# Altium schematic symbol library ESP32 Platform.SchLib: 28 symbols
Pins are listed as number, name and electrical type; pins without a type are passive.

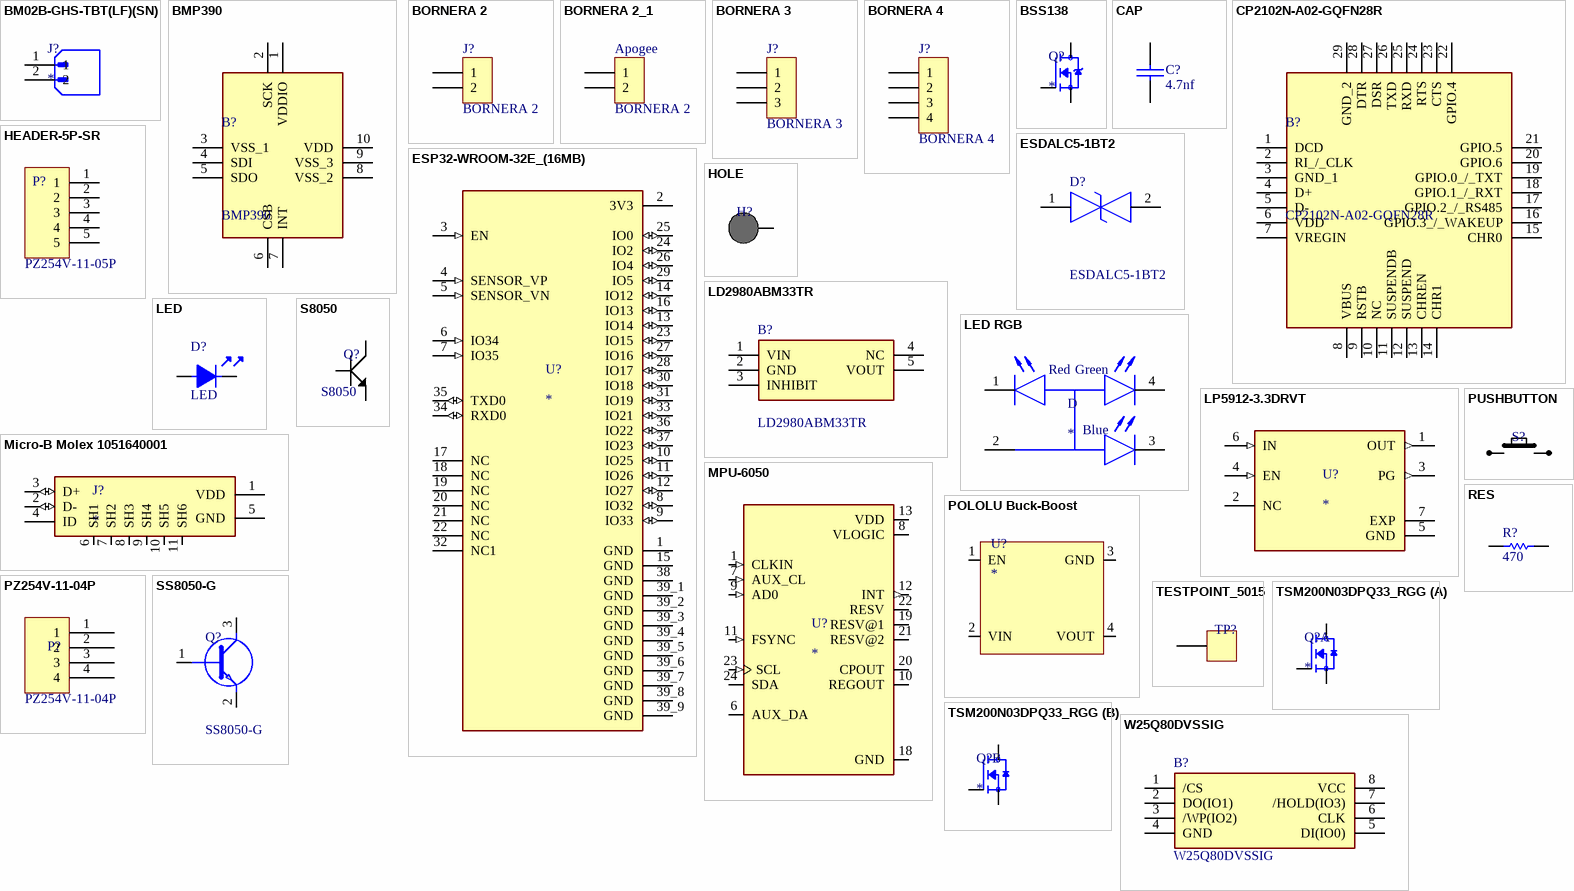
[diagram p0: symbols BM02B-GHS-TBT(LF)(SN) to W25Q80DVSSIG]

## BM02B-GHS-TBT(LF)(SN)
designator J?
Connector Header Surface Mount 2 position 0.049 (1.25mm); MF: JST Corporation; MP: BM02B-GHS-TBT(LF)(SN); Package: None; Value: *; Availability: Warning; Check_prices: https://www.snapeda.com/parts/BM02B-GHS-TBT(LF)(SN)/JST/view-part/4833827/?ref=eda; SnapEDA_Link: https://www.snapeda.com/parts/BM02B-GHS-TBT(LF)(SN)/JST/view-part/4833827/?ref=snap; Price: None
footprint JST_BM02B-GHS-TBT(LF)(SN)
pins: 1, 2

## BMP390
designator B?
Board Mount Pressure Sensors; Manufacturer_Name: BOSCH; Geometry.Height: 0.8mm; Mouser Part Number: 262-BMP390; Mouser Price/Stock: https://www.mouser.co.uk/ProductDetail/Bosch-Sensortec/BMP390?qs=QNEnbhJQKvYQVfvRMgo2YA%3D%3D; Manufacturer_Part_Number: BMP390; Datasheet Link: https://www.bosch-sensortec.com/media/boschsensortec/downloads/datasheets/bst-bmp390-ds002.pdf
footprint BMP390
pins: 1 VDDIO, 2 SCK, 3 VSS_1, 4 SDI, 5 SDO, 6 CSB, 7 INT, 8 VSS_2, 9 VSS_3, 10 VDD

## BORNERA 2
designator J?
footprint BORNERA2 (Bornera con Tornillos 5mm separación)
pins: 1, 2

## BORNERA 2_1
designator Apogee, comment BORNERA 2
footprint BORNERA2 (Bornera con Tornillos 5mm separación)
pins: 1, 2

## BORNERA 3
designator J?
footprint BORNERA3 (Bornera con Tornillos 5mm separación)
pins: 1, 2, 3

## BORNERA 4
designator J?
footprint BORNERA4 (Bornera con Tornillos 5mm separación)
pins: 1, 2, 3, 4

## BSS138
designator Q?
N-Channel 50V 220mA (Ta) 360mW (Ta) Surface Mount SOT-23-3; MP: BSS138; MF: ON Semiconductor; Price: None; SnapEDA_Link: https://www.snapeda.com/parts/BSS138/ON%20Semiconductor/view-part/4794929/?ref=snap; Availability: Good; Purchase-URL: https://pricing.snapeda.com/search/part/BSS138/?ref=eda; Value: *; Check_prices: https://www.snapeda.com/parts/BSS138/ON%20Semiconductor/view-part/4794929/?ref=eda; Package: SOT-23 ON Semiconductor
footprint SOT95P240X111-3N
pins: 1 G, 2 S, 3 D

## CAP
designator C?, comment 4.7nf
Capacitor SMD 4.7nF
footprint 1206 (Pasivo 1206)
footprint CAPSMD0805 (Pasivo 0805)
footprint CAP100RP2 (Body diameter 6.5mm)
footprint CAPSMD0603 (Pasivo 0603)
pins: 1, 2

## CP2102N-A02-GQFN28R
designator B?
USB Interface IC USB to UART bridge - QFN28; Manufacturer_Name: Silicon Labs; Geometry.Height: 0.8mm; Mouser Part Number: 634-CP2102NA02QFN28R; Mouser Price/Stock: https://www.mouser.co.uk/ProductDetail/Silicon-Labs/CP2102N-A02-GQFN28R?qs=u16ybLDytRag4qKvSH3fTw%3D%3D; Manufacturer_Part_Number: CP2102N-A02-GQFN28R; Datasheet Link: https://www.silabs.com/documents/public/data-sheets/cp2102n-datasheet.pdf
footprint CP2102N
pins: 1 DCD, 2 RI_/_CLK, 3 GND_1, 4 D+, 5 D-, 6 VDD, 7 VREGIN, 8 VBUS, 9 RSTB, 10 NC, 11 SUSPENDB, 12 SUSPEND, 13 CHREN, 14 CHR1, 15 CHR0, 16 GPIO.3_/_WAKEUP, 17 GPIO.2_/_RS485, 18 GPIO.1_/_RXT, 19 GPIO.0_/_TXT, 20 GPIO.6, 21 GPIO.5, 22 GPIO.4, 23 CTS, 24 RTS, 25 RXD, 26 TXD, 27 DSR, 28 DTR, 29 GND_2

## ESDALC5-1BT2
designator D?
ESD Suppressors / TVS Diodes Single Line Transil Vbr 5V min 26pF 0; Manufacturer_Name: STMicroelectronics; Mouser Part Number: 511-ESDALC5-1BT2; Mouser Price/Stock: https://www.mouser.co.uk/ProductDetail/STMicroelectronics/ESDALC5-1BT2?qs=z0iXaKah%2FHDPGBBIoqx%252BQw%3D%3D; Manufacturer_Part_Number: ESDALC5-1BT2; Datasheet Link: http://www.st.com/web/en/resource/technical/document/datasheet/CD00260064.pdf
footprint ESDALC51BT2
pins: 1, 2

## ESP32-WROOM-32E_(16MB)
designator U?
Bluetooth, WiFi 802.11b/g/n, Bluetooth v4.2 +EDR, Class 1, 2 and 3 Transceiver Module 2.4GHz ~ 2.5GHz Integrated, Trace Surface Mount; MP: ESP32-WROOM-32E (16MB); MF: Espressif Systems; Price: None; Availability: Not in stock; Package: None; Value: *; SnapEDA_Link: https://www.snapeda.com/parts/ESP32-WROOM-32E%20(16MB)/Espressif+Systems/view-part/?ref=snap; Check_prices: https://www.snapeda.com/parts/ESP32-WROOM-32E%20(16MB)/Espressif+Systems/view-part/?ref=eda
footprint XCVR_ESP32-WROOM-32E_(16MB)
pins: 1 GND (power), 2 3V3 (power), 3 EN (in), 4 SENSOR_VP (in), 5 SENSOR_VN (in), 6 IO34 (in), 7 IO35 (in), 8 IO32 (io), 9 IO33 (io), 10 IO25 (io), 11 IO26 (io), 12 IO27 (io), 13 IO14 (io), 14 IO12 (io), 15 GND (power), 16 IO13 (io), 17 NC, 18 NC, 19 NC, 20 NC, 21 NC, 22 NC, 23 IO15 (io), 24 IO2 (io), 25 IO0 (io), 26 IO4 (io), 27 IO16 (io), 28 IO17 (io), 29 IO5 (io), 30 IO18 (io), 31 IO19 (io), 32 NC1, 33 IO21 (io), 34 RXD0 (io), 35 TXD0 (io), 36 IO22 (io), 37 IO23 (io), 38 GND (power), 39_1 GND (power), 39_2 GND (power), 39_3 GND (power), 39_4 GND (power), 39_5 GND (power), 39_6 GND (power), 39_7 GND (power), 39_8 GND (power), 39_9 GND (power)

## HEADER-5P-SR
designator P?  Manufacturer Part Number: PZ254V-11-05P
Manufacturer: XFCN; Supplier: JLCPCB; Supplier Part Number: C492404
footprint PZ254V-11-05P
pins: 1, 2, 3, 4, 5

## HOLE
designator H?
footprint HOLE_M3
pins: 1

## LD2980ABM33TR
designator B?
LDO Regulator 3.3V 0.05A SOT23-5 LD2980ABM33TR, Low Dropout Voltage Regulator, 0.05A, 3.3 V +/-0.5%, -3  16 Vin, 5-Pin SOT-23; Manufacturer_Name: STMicroelectronics; Geometry.Height: 1.45mm; Mouser Part Number: 511-LD2980ABM33; Mouser Price/Stock: https://www.mouser.co.uk/ProductDetail/STMicroelectronics/LD2980ABM33TR?qs=6luCnr706CzStQ7dZ4O4ww%3D%3D; Manufacturer_Part_Number: LD2980ABM33TR; Datasheet Link: http://www.st.com/st-web-ui/static/active/en/resource/technical/document/datasheet/CD00001636.pdf
footprint SOT95P280X145-5N
pins: 1 VIN, 2 GND (power), 3 INHIBIT, 4 NC, 5 VOUT

## LED
designator D?
LED SMD Verde
footprint LEDSMD0603 (LED SMD 0603)
footprint LED3
footprint LED5
pins: A, K

## LED RGB
designator D
Red, Green, Blue _RGB_ 622nm Red, 530nm Green, 470nm Blue LED Indication - Discrete 1.9V Red, 3V Green, 3V Blue 4-PLCC; MF: Cree Inc.; MP: CLVBA-FKA-CAEDH8BBB7A363; SnapEDA_Link: https://www.snapeda.com/parts/CLVBA-FKA-CAEDH8BBB7A363/Cree%20Inc./view-part/134493/?ref=snap; Digi-Key_Part_Number: CLVBA-FKA-CAEDH8BBB7A363CT-ND; Digi-Key_Purchase_URL: https://www.digikey.com/product-detail/en/cree-inc/CLVBA-FKA-CAEDH8BBB7A363/CLVBA-FKA-CAEDH8BBB7A363CT-ND/2650500?utm_source=snapeda&utm_medium=aggregator&utm_campaign=symbol; Value: *; Package: PLCC-4 Cree
footprint 4-PLCC (3.2 x 2.8 mm)
pins: 1 RED_C, 2 A, 3 BLUE_C, 4 GREEN_C
text: Red; Green; Blue

## LP5912-3.3DRVT
designator U?
500-mA, low-noise, low-IQ, low-dropout voltage regulator with reverse current protection 6-WSON -40 to 125; MP: LP5912-3.3DRVT; Package: None; Price: None; Value: *; Availability: Unavailable
footprint SON65P200X200X80-7N
pins: 1 OUT (out), 2 NC, 3 PG (out), 4 EN (in), 5 GND (power), 6 IN (in), 7 EXP (power)

## Micro-B Molex 1051640001
designator J?
USB - micro B USB 2.0 Receptacle Connector 5 Position Surface Mount, Right Angle; Through Hole; MP: 105017-0001; MF: Molex; SnapEDA_Link: https://www.snapeda.com/parts/105017-0001/Molex/view-part/?ref=snap; Package: None; Check_prices: https://www.snapeda.com/parts/105017-0001/Molex/view-part/?ref=eda; Purchase-URL: https://pricing.snapeda.com/search/part/105017-0001/?ref=eda; Price: None; Value: *; Availability: In Stock
footprint MOLEX_105017-0001
footprint Micro-B Molex 1051640001
pins: 1 VDD (power), 2 D- (io), 3 D+ (io), 4 ID, 5 GND (power), 6 SH1, 7 SH2, 8 SH3, 9 SH4, 10 SH5, 11 SH6

## MPU-6050
designator U?
MPU-6050 series Accelerometer, Gyroscope, 3 Axis Sensor Evaluation Board; MF: TDK InvenSense; Value: *; SnapEDA_Link: https://www.snapeda.com/parts/MPU-6050/TDK+InvenSense/view-part/?ref=snap; Purchase-URL: https://pricing.snapeda.com/search/part/MPU-6050/?ref=eda; Availability: In Stock; Price: None; Package: QFN-24 InvenSense; Check_prices: https://www.snapeda.com/parts/MPU-6050/TDK+InvenSense/view-part/?ref=eda; MP: MPU-6050
footprint QFN24
pins: 1 CLKIN (in), 6 AUX_DA (io), 7 AUX_CL (in), 8 VLOGIC (power), 9 AD0 (in), 10 REGOUT, 11 FSYNC (in), 12 INT (out), 13 VDD (power), 18 GND (power), 19 RESV@1, 20 CPOUT, 21 RESV@2, 22 RESV, 23 SCL (in), 24 SDA (io)

## POLOLU Buck-Boost
designator U?
Pololu S7V8F3 Buc-Boost regulator
pins: 1 EN, 2 VIN, 3 GND, 4 VOUT

## PUSHBUTTON
designator S?
NO 6mm Gull Wing 4.3mm Black Round Button Brick nogging SPST 6mm 180gf@±30gf SMD  Tactile Switches ROHS; Manufacturer: Yuandi; Manufacturer Part Number: TS-1095PS-A1B2-C3D2; Supplier: JLCPCB; Supplier Part Number: C2834918
footprint PUSHBUTTON
pins: 1, 2

## PZ254V-11-04P
designator P?  Manufacturer Part Number: PZ254V-11-04P
Straight Square Pins 2.5mm 6mm -40℃~+105℃ 1 3mm 4 2.54mm Black Brass 1x4P Straight,P=2.54mm  Pin Headers ROHS; Manufacturer: XFCN; Supplier: JLCPCB; Supplier Part Number: C492403
footprint PZ254V-11-04P
pins: 1, 2, 3, 4

## RES
designator R?, comment 470
Resistencia SMD 470ohms
footprint RES400
footprint RES100
footprint RES300
footprint RES500
footprint RES600
footprint RES1200
footprint RESSMD0805 (Pasivo 0805)
footprint SMD0603 (Placeholder)
footprint 1206
footprint 0805
pins: 1, 2

## S8050
designator Q?  Manufacturer Part Number: S8050
Manufacturer: JSMSEMI; Supplier: JLCPCB; Supplier Part Number: C916390
footprint SOT-23-3
pins: 1, 2, 3

## SS8050-G
designator Q?
Bipolar Transistors - BJT NPN TRANSISTOR 1.5A 40V; Manufacturer_Name: Comchip Technology; Geometry.Height: 1.15mm; Mouser Part Number: 750-SS8050-G; Mouser Price/Stock: https://www.mouser.co.uk/ProductDetail/Comchip-Technology/SS8050-G?qs=LLUE9lz1YbcHg%252BWLMAtcrQ%3D%3D; Manufacturer_Part_Number: SS8050-G; Datasheet Link: https://datasheet.datasheetarchive.com/originals/distributors/DKDS-12/229454.pdf
footprint SOT95P240X115-3N
pins: 1 B, 2 E, 3 C

## TESTPOINT_5015
designator TP?
Thimble/Copper Rod/Test Ring ROHS; Manufacturer: Ronghe; Manufacturer Part Number: RH-5015; Supplier: JLCPCB; Supplier Part Number: C5199798
footprint 5015
pins: 1

## TSM200N03DPQ33_RGG
designator Q?
MP: TSM200N03DPQ33_RGG; MF: Taiwan Semiconductor; Price: None; Package: None; Value: *; Availability: Unavailable
footprint TRANS_TSM200N03DPQ33_RGG
part A pins: 1 S1, 2 G1, 7_8 D1
part B pins: 3 S2, 4 G2, 5_6 D2

## W25Q80DVSSIG
designator B?
8M-bit 3.0V Serial Flash Memory with uniform 4KB sectors and Dual/Quad SPI; Manufacturer_Name: Winbond; Geometry.Height: 2.16mm; Mouser Part Number: 454-W25Q80DVSSIG; Mouser Price/Stock: https://www.mouser.co.uk/ProductDetail/Winbond/W25Q80DVSSIG?qs=qSfuJ%252Bfl%2Fd6z%2FQYNv5lpMA%3D%3D; Manufacturer_Part_Number: W25Q80DVSSIG; Datasheet Link: https://www.winbond.com/hq/search-resource-file.jsp?partNo=W25Q80DVSSIG&type=datasheet
footprint SOIC127P790X216-8N
footprint SOIC127P790X216-8N
pins: 1 /CS, 2 DO(IO1), 3 /WP(IO2), 4 GND, 5 DI(IO0), 6 CLK, 7 /HOLD(IO3), 8 VCC